# EAGLE library part 20021121-00010 (library all-connectors)
20021121-00010 Amphenol FCI Minitek127® Board to Board connector, Unshrouded vertical header, Surface Mount, Double Row, 10 Positions, 1.27mm (0.5inch) pitch
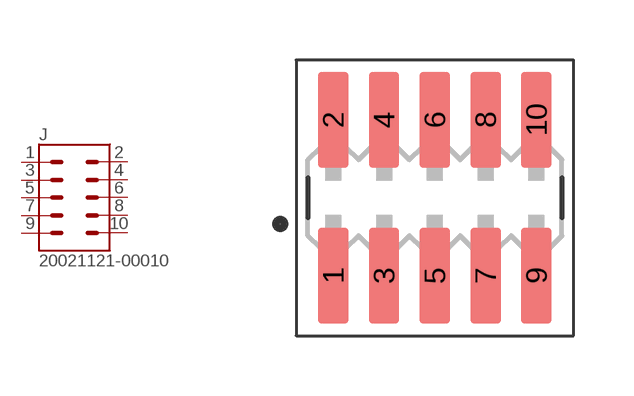
[diagram p3: symbol with the pads of MA05-2_SMD_1.27MM; footprint MA05-2_SMD_1.27MM]

Designator prefix J

## 20021121-00010  [MA05-2_SMD_1.27MM]
1  1  pas
2  2  pas
3  3  pas
4  4  pas
5  5  pas
6  6  pas
7  7  pas
8  8  pas
9  9  pas
10  10  pas

## Footprint MA05-2_SMD_1.27MM (pad centres in mm)
smd 0.76 x 2.4: 1 -2.54,-1.95; 2 -2.54,1.95; 3 -1.27,-1.95; 4 -1.27,1.95; 5 0,-1.95; 6 0,1.95; 7 1.27,-1.95; 8 1.27,1.95; 9 2.54,-1.95; 10 2.54,1.95